# Altium footprint library alexsb.PCBLIB: 444 footprints (part 4 of 28)
Each footprint in its own frame and in the unit in brackets; x right, y up, seen from the top. Pads: shape width x height; smd on the part's side, far side on the other; paste and mask are expansions set on the pad; w line width, h text height; cw(c..) or ccw(c..) is an arc to the next point about the centre after c.
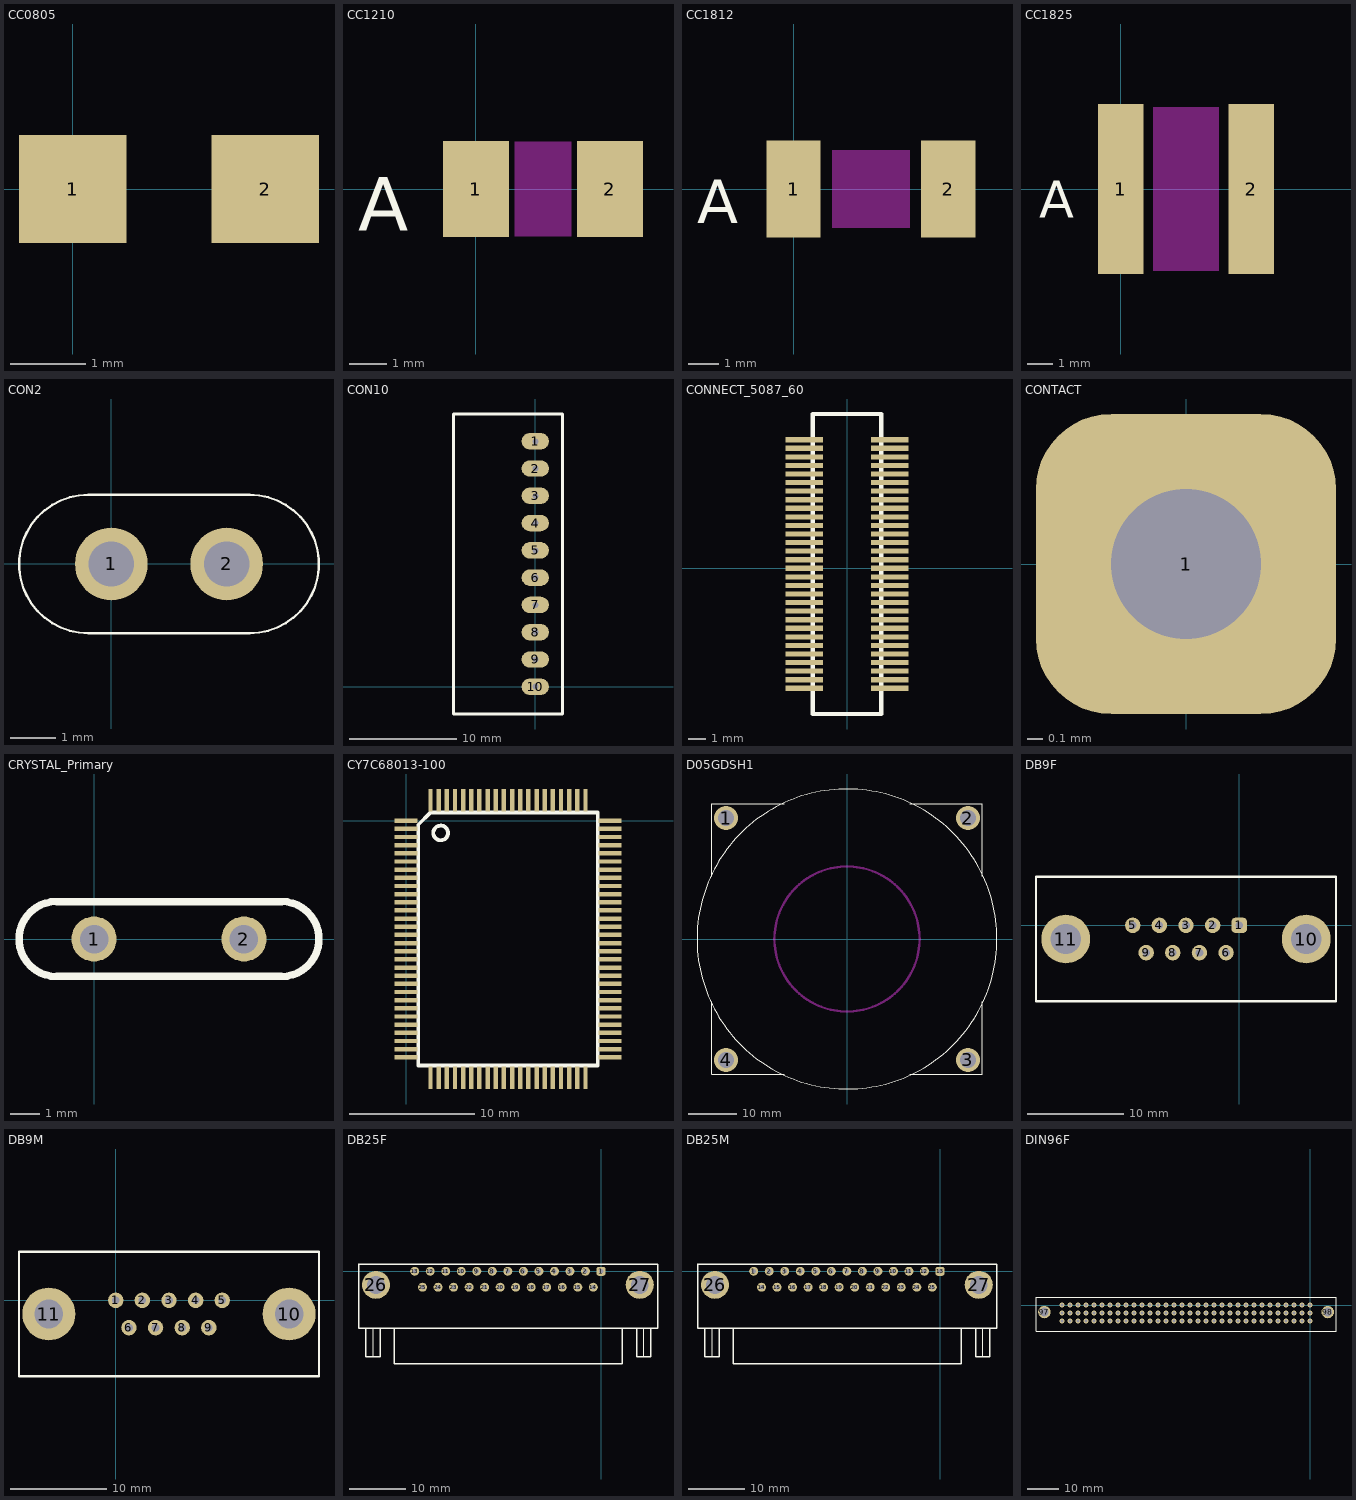
[diagram p3: the footprints below, top view; thin cyan lines are the x and y axes]

## CC0805 [mil]
pads (2):
  rect 56x56 smd: 1(0,0) 2(100,0)

## CC1210 [mil]
pads (2):
  rect 70x102 smd: 1(0,0) 2(142,0)
Top Overlay:
  text "A" at -125,-44 h56.88
Multi-Layer keep-out:
  region: 101,-50 101,50 41,50 41,-50

## CC1812 [mil]
pads (2):
  rect 70x126 smd: 1(0,0) 2(200,0)
Top Overlay:
  text "A" at -125,-44 h56.88
Multi-Layer keep-out:
  region: 150,-50 150,50 50,50 50,-50

## CC1825 [mil]
pads (2):
  rect 70x260 smd: 1(0,0) 2(200,0)
Top Overlay:
  text "A" at -125,-44 h56.88
Multi-Layer keep-out:
  region: 150,-125 150,125 50,125 50,-125

## CON2 [mm]
pads (2):
  round 1.6 hole 1: 1(0,0) 2(2.54,0)
Top Overlay:
  lines w0.05: -0.508,-1.524 cw(c-0.508,0) -0.508,1.524 3.048,1.524 cw(c3.048,0) 3.048,-1.524 -0.508,-1.524

## CON10 [mil]
pads (10):
  oval 100x60 hole 22: 1(0,900) 2(0,800) 3(0,700) 4(0,600) 5(0,500) 6(0,400) 7(0,300) 8(0,200) 9(0,100) 10(0,0)
Top Overlay:
  lines w10: -300,-100 100,-100 100,1000 -300,1000 -300,-100

## CONNECT_5087_60 [mm]
pads (60):
  rect 2.2x0.3 smd: 1(-2.5,-7) 2(2.5,-7) 3(-2.5,-6.5) 4(2.5,-6.5) 5(-2.5,-6) 6(2.5,-6) 7(-2.5,-5.5) 8(2.5,-5.5) 9(-2.5,-5) 10(2.5,-5) 11(-2.5,-4.5) 12(2.5,-4.5) 13(-2.5,-4) 14(2.5,-4) 15(-2.5,-3.5) 16(2.5,-3.5) 17(-2.5,-3) 18(2.5,-3) 19(-2.5,-2.5) 20(2.5,-2.5) 21(-2.5,-2) 22(2.5,-2) 23(-2.5,-1.5) 24(2.5,-1.5) 25(-2.5,-1) 26(2.5,-1) 27(-2.5,-0.5) 28(2.5,-0.5) 29(-2.5,0) 30(2.5,0) 31(-2.5,0.5) 32(2.5,0.5) 33(-2.5,1) 34(2.5,1) 35(-2.5,1.5) 36(2.5,1.5) 37(-2.5,2) 38(2.5,2) 39(-2.5,2.5) 40(2.5,2.5) 41(-2.5,3) 42(2.5,3) 43(-2.5,3.5) 44(2.5,3.5) 45(-2.5,4) 46(2.5,4) 47(-2.5,4.5) 48(2.5,4.5) 49(-2.5,5) 50(2.5,5) 51(-2.5,5.5) 52(2.5,5.5) 53(-2.5,6) 54(2.5,6) 55(-2.5,6.5) 56(2.5,6.5) 57(-2.5,7) 58(2.5,7) 59(-2.5,7.5) 60(2.5,7.5)
Top Overlay:
  lines w0.254: -2,-8.5 2,-8.5 2,9 -2,9 -2,-8.5

## CONTACT [mm]
pads (1):
  rrect50% 2x2 hole 1: 1(0,0)

## CRYSTAL_Primary [mil]
pads (2):
  round 60 hole 38: 1(0,0) 2(200,0)
Top Overlay:
  lines w10: -50,-50 cw(c-50,0) -50,50 250,50 cw(c250,0) 250,-50 -50,-50

## CY7C68013-100 [mm]
pads (100):
  rect 1.8x0.35 smd: 1(0,0) 2(0,-0.65) 3(0,-1.3) 4(0,-1.95) 5(0,-2.6) 6(0,-3.25) 7(0,-3.9) 8(0,-4.55) 9(0,-5.2) 10(0,-5.85) 11(0,-6.5) 12(0,-7.15) 13(0,-7.8) 14(0,-8.45) 15(0,-9.1) 16(0,-9.75) 17(0,-10.4) 18(0,-11.05) 19(0,-11.7) 20(0,-12.35) 21(0,-13) 22(0,-13.65) 23(0,-14.3) 24(0,-14.95) 25(0,-15.6) 26(0,-16.25) 27(0,-16.9) 28(0,-17.55) 29(0,-18.2) 30(0,-18.85) 51(16.25,-18.85) 52(16.25,-18.2) 53(16.25,-17.55) 54(16.25,-16.9) 55(16.25,-16.25) 56(16.25,-15.6) 57(16.25,-14.95) 58(16.25,-14.3) 59(16.25,-13.65) 60(16.25,-13) 61(16.25,-12.35) 62(16.25,-11.7) 63(16.25,-11.05) 64(16.25,-10.4) 65(16.25,-9.75) 66(16.25,-9.1) 67(16.25,-8.45) 68(16.25,-7.8) 69(16.25,-7.15) 70(16.25,-6.5) 71(16.25,-5.85) 72(16.25,-5.2) 73(16.25,-4.55) 74(16.25,-3.9) 75(16.25,-3.25) 76(16.25,-2.6) 77(16.25,-1.95) 78(16.25,-1.3) 79(16.25,-0.65) 80(16.25,0)
  rect 0.35x1.8 smd: 31(1.95,-20.475) 32(2.6,-20.475) 33(3.25,-20.475) 34(3.9,-20.475) 35(4.55,-20.475) 36(5.2,-20.475) 37(5.85,-20.475) 38(6.5,-20.475) 39(7.15,-20.475) 40(7.8,-20.475) 41(8.45,-20.475) 42(9.1,-20.475) 43(9.75,-20.475) 44(10.4,-20.475) 45(11.05,-20.475) 46(11.7,-20.475) 47(12.35,-20.475) 48(13,-20.475) 49(13.65,-20.475) 50(14.3,-20.475) 81(14.3,1.625) 82(13.65,1.625) 83(13,1.625) 84(12.35,1.625) 85(11.7,1.625) 86(11.05,1.625) 87(10.4,1.625) 88(9.75,1.625) 89(9.1,1.625) 90(8.45,1.625) 91(7.8,1.625) 92(7.15,1.625) 93(6.5,1.625) 94(5.85,1.625) 95(5.2,1.625) 96(4.55,1.625) 97(3.9,1.625) 98(3.25,1.625) 99(2.6,1.625) 100(1.95,1.625)
Top Overlay:
  circle w0.3: c2.762,-0.975 r0.586
  lines w0.3: 0.975,-19.5 15.275,-19.5 15.275,0.65 2.6,0.65 1.95,0.65 0.975,-0.325 0.975,-19.5

## D05GDSH1 [mm]
pads (4):
  round 5 hole 3.3: 1(-25,25) 2(25,25) 3(25,-25) 4(-25,-25)
Top Overlay:
  circle w0.1: c0,0 r31
  lines w0.1: -28,-13 -28,-28 -13,-28 ; -28,13 -28,28 -13,28 ; 13,-28 28,-28 28,-13 ; 13,28 28,28 28,13
Keep-Out Layer:
  circle w0.5: c0,0 r15

## DB9F [mm]
pads (11):
  rrect50% 1.6x1.6 hole 0.8: 1(0,0)
  round 1.6 hole 0.8: 2(-2.769,0) 3(-5.537,0) 4(-8.306,0) 5(-11.074,0) 6(-1.372,-2.845) 7(-4.14,-2.845) 8(-6.909,-2.845) 9(-9.677,-2.845)
  round 5.08 hole 3.15: 10(6.96,-1.422) 11(-18.034,-1.422)
Top Overlay:
  lines w0.254: -21.133,-7.899 10.058,-7.899 10.058,5.055 -21.133,5.055 -21.133,-7.899

## DB9M [mm]
pads (11):
  round 1.6 hole 0.8: 1(0,0) 2(2.769,0) 3(5.537,0) 4(8.306,0) 5(11.074,0) 6(1.372,-2.845) 7(4.14,-2.845) 8(6.909,-2.845) 9(9.677,-2.845)
  round 5.5 hole 3: 10(18.034,-1.422) 11(-6.96,-1.422)
Top Overlay:
  lines w0.254: -10.058,-7.899 -10.058,5.055 21.133,5.055 21.133,-7.899 -10.058,-7.899

## DB25F [mm]
pads (27):
  rrect50% 1.6x1.6 hole 0.8: 1(0,0)
  round 1.6 hole 0.8: 2(-2.769,0) 3(-5.537,0) 4(-8.306,0) 5(-11.074,0) 6(-13.843,0) 7(-16.612,0) 8(-19.38,0) 9(-22.149,0) 10(-24.917,0) 11(-27.686,0) 12(-30.455,0) 13(-33.223,0) 14(-1.372,-2.845) 15(-4.14,-2.845) 16(-6.909,-2.845) 17(-9.677,-2.845) 18(-12.446,-2.845) 19(-15.215,-2.845) 20(-17.983,-2.845) 21(-20.752,-2.845) 22(-23.52,-2.845) 23(-26.289,-2.845) 24(-29.058,-2.845) 25(-31.826,-2.845)
  round 5 hole 3.2: 26(-40.132,-2.42) 27(6.909,-2.42)
Top Overlay:
  lines w0.1: -40.64,-15.24 -40.64,-10.16 ; 7.62,-15.24 7.62,-10.16
  lines w0.25: -41.91,-10.16 -41.91,-15.24 -39.37,-15.24 -39.37,-10.16 ; -36.83,-10.16 -36.83,-16.51 3.81,-16.51 3.81,-10.16 ; 6.35,-10.16 6.35,-15.24 8.89,-15.24 8.89,-10.16
  lines w0.254: -43.332,1.245 10.109,1.245 ; -43.18,1.27 -43.18,-10.16 10.16,-10.16 10.16,1.27

## DB25M [mm]
pads (27):
  round 1.6 hole 0.8: 1(-33.223,0) 2(-30.455,0) 3(-27.686,0) 4(-24.917,0) 5(-22.149,0) 6(-19.38,0) 7(-16.612,0) 8(-13.843,0) 9(-11.074,0) 10(-8.306,0) 11(-5.537,0) 12(-2.769,0) 14(-31.826,-2.845) 15(-29.058,-2.845) 16(-26.289,-2.845) 17(-23.52,-2.845) 18(-20.752,-2.845) 19(-17.983,-2.845) 20(-15.215,-2.845) 21(-12.446,-2.845) 22(-9.677,-2.845) 23(-6.909,-2.845) 24(-4.14,-2.845) 25(-1.372,-2.845)
  rrect50% 1.6x1.6 hole 0.8: 13(0,0)
  round 5 hole 3.2: 26(-40.132,-2.42) 27(6.909,-2.42)
Top Overlay:
  lines w0.1: -40.64,-15.24 -40.64,-10.16 ; 7.62,-15.24 7.62,-10.16
  lines w0.25: -41.91,-10.16 -41.91,-15.24 -39.37,-15.24 -39.37,-10.16 ; -36.83,-10.16 -36.83,-16.51 3.81,-16.51 3.81,-10.16 ; 6.35,-10.16 6.35,-15.24 8.89,-15.24 8.89,-10.16
  lines w0.254: -43.332,1.245 10.109,1.245 ; -43.18,1.27 -43.18,-10.16 10.16,-10.16 10.16,1.27

## DIN96F [mm]
pads (98):
  round 1.6 hole 0.8: 1(0,0) 2(-2.54,0) 3(-5.08,0) 4(-7.62,0) 5(-10.16,0) 6(-12.7,0) 7(-15.24,0) 8(-17.78,0) 9(-20.32,0) 10(-22.86,0) 11(-25.4,0) 12(-27.94,0) 13(-30.48,0) 14(-33.02,0) 15(-35.56,0) 16(-38.1,0) 17(-40.64,0) 18(-43.18,0) 19(-45.72,0) 20(-48.26,0) 21(-50.8,0) 22(-53.34,0) 23(-55.88,0) 24(-58.42,0) 25(-60.96,0) 26(-63.5,0) 27(-66.04,0) 28(-68.58,0) 29(-71.12,0) 30(-73.66,0) 31(-76.2,0) 32(-78.74,0) 33(0,-2.54) 34(-2.54,-2.54) 35(-5.08,-2.54) 36(-7.62,-2.54) 37(-10.16,-2.54) 38(-12.7,-2.54) 39(-15.24,-2.54) 40(-17.78,-2.54) 41(-20.32,-2.54) 42(-22.86,-2.54) 43(-25.4,-2.54) 44(-27.94,-2.54) 45(-30.48,-2.54) 46(-33.02,-2.54) 47(-35.56,-2.54) 48(-38.1,-2.54) 49(-40.64,-2.54) 50(-43.18,-2.54) 51(-45.72,-2.54) 52(-48.26,-2.54) 53(-50.8,-2.54) 54(-53.34,-2.54) 55(-55.88,-2.54) 56(-58.42,-2.54) 57(-60.96,-2.54) 58(-63.5,-2.54) 59(-66.04,-2.54) 60(-68.58,-2.54) 61(-71.12,-2.54) 62(-73.66,-2.54) 63(-76.2,-2.54) 64(-78.74,-2.54) 65(0,-5.08) 66(-2.54,-5.08) 67(-5.08,-5.08) 68(-7.62,-5.08) 69(-10.16,-5.08) 70(-12.7,-5.08) 71(-15.24,-5.08) 72(-17.78,-5.08) 73(-20.32,-5.08) 74(-22.86,-5.08) 75(-25.4,-5.08) 76(-27.94,-5.08) 77(-30.48,-5.08) 78(-33.02,-5.08) 79(-35.56,-5.08) 80(-38.1,-5.08) 81(-40.64,-5.08) 82(-43.18,-5.08) 83(-45.72,-5.08) 84(-48.26,-5.08) 85(-50.8,-5.08) 86(-53.34,-5.08) 87(-55.88,-5.08) 88(-58.42,-5.08) 89(-60.96,-5.08) 90(-63.5,-5.08) 91(-66.04,-5.08) 92(-68.58,-5.08) 93(-71.12,-5.08) 94(-73.66,-5.08) 95(-76.2,-5.08) 96(-78.74,-5.08)
  round 3.962 hole 2.794: 97(-84.353,-2.235) 98(5.639,-2.235)
Top Overlay:
  lines w0.254: -86.995,-8.255 8.255,-8.255 8.255,2.54 -86.995,2.54 -86.995,-8.255